# Altium footprint library Schraubklemme_1x4.PcbLib: 1 footprints
Each footprint in its own frame and in the unit in brackets; x right, y up, seen from the top. Pads: shape width x height; smd on the part's side, far side on the other; paste and mask are expansions set on the pad; w line width, h text height; cw(c..) or ccw(c..) is an arc to the next point about the centre after c.
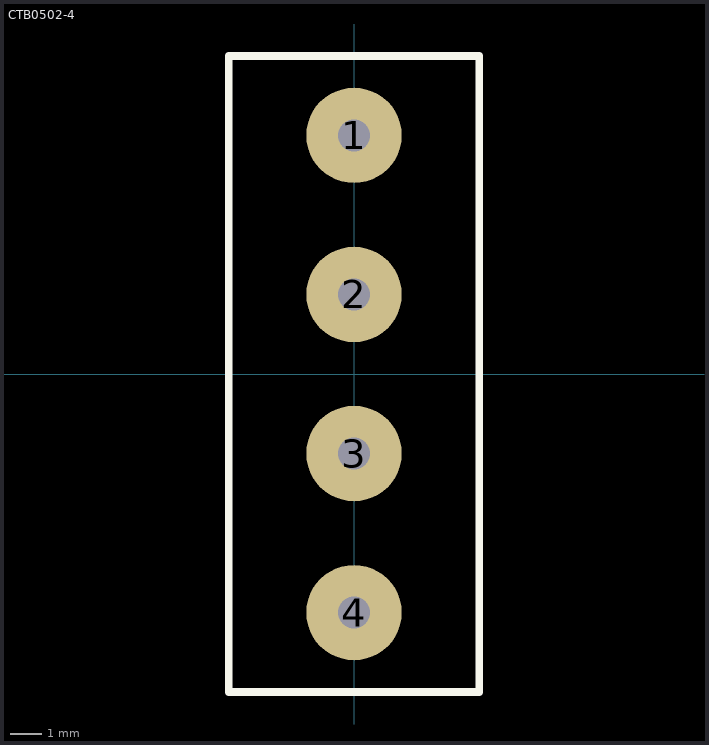
[diagram p0: the footprint, top view; thin cyan lines are the x and y axes]

## CTB0502-4 [mil]
pads (4):
  round 120 hole 40.16: 1(0,300) 2(0,100) 3(0,-100) 4(0,-300)
Top Overlay:
  lines w10: -157.48,-400 157.48,-400 157.48,400 -157.48,400 -157.48,-400
3D body "Schraubklemme_1x4.stp": height 393.7, standoff -137.8, extent -159.45,-393.7 159.45,393.7